# EAGLE library part ETHERNET-ENC28J60 (library IBe-9102-lib)
Ethernet Module based on ENC28J60 chip Click here to find device on ebay.com <http://www.ebay.com/sch/end28j60+ethernet+lan+module> Note: There are many variants. Search for the proper version.
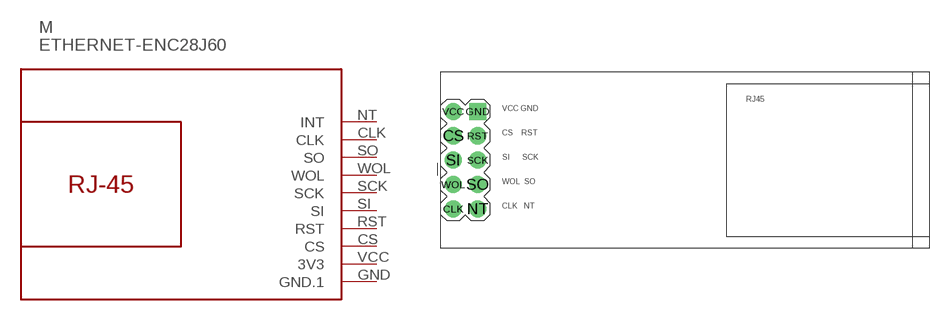
[diagram p8: symbol with the pads of ETHERNET-ENC28J60; footprint ETHERNET-ENC28J60]

Designator prefix M

## ETHERNET-ENC28J60  [ETHERNET-ENC28J60]
CLK  CLK
CS  CS
GND  GND.1  pwr
NT  INT
RST  RST
SCK  SCK
SI  SI
SO  SO
VCC  3V3  pwr
WOL  WOL

## Footprint ETHERNET-ENC28J60 (pad centres in mm)
Ethernet Module based on ENC28J60 chip
drill 1 pad 1.778: CLK -20.32,-3.81; CS -20.32,3.81; NT -17.78,-3.81; RST -17.78,3.81; SCK -17.78,1.27; SI -20.32,1.27; SO -17.78,-1.27; VCC -20.32,6.35; WOL -20.32,-1.27
drill 1 pad 1.778 square: GND -17.78,6.35